# EAGLE library part CWF-10 (library gost_con_wf)
Разъем CWF шаг 2.50 mm
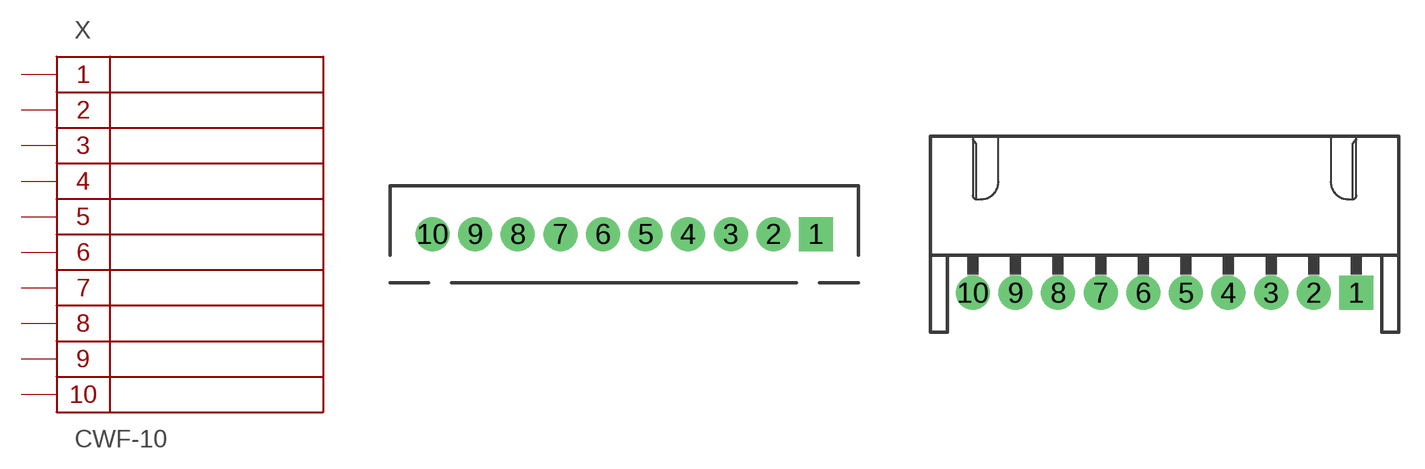
[diagram p4: symbol with the pads of CWF-10; footprints CWF-10, CWF-10R]

Designator prefix X

## CWF-10  [CWF-10]
1  1
2  2
3  3
4  4
5  5
6  6
7  7
8  8
9  9
10  10

## CWF-10R  [CWF-10R]
Pads as for CWF-10

## Footprint CWF-10 (pad centres in mm)
Разъем CWF-10 2.50mm
drill 1 pad 2 square: 1 11.25,0
drill 1 pad 2: 2 8.75,0; 3 6.25,0; 4 3.75,0; 5 1.25,0; 6 -1.25,0; 7 -3.75,0; 8 -6.25,0; 9 -8.75,0; 10 -11.25,0

## Footprint CWF-10R (pad centres in mm)
Разъем CWF-10R 2.50mm h=9.2mm
drill 1 pad 2 square: 1 11.25,0
drill 1 pad 2: 2 8.75,0; 3 6.25,0; 4 3.75,0; 5 1.25,0; 6 -1.25,0; 7 -3.75,0; 8 -6.25,0; 9 -8.75,0; 10 -11.25,0